# Altium schematic symbol library TLV320AIC3204.SchLib: 1 symbol
Pins are listed as number, name and electrical type; pins without a type are passive.

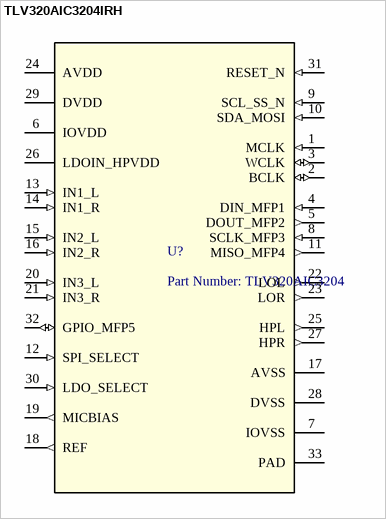
[diagram p0: symbol TLV320AIC3204IRH]

## TLV320AIC3204IRH
designator U?, comment Part Number: TLV320AIC3204
Very-Low-Power Stereo Audio CODEC With PowerTune™ Technology; PartNumber: TLV320AIC3204IRHBR; Manufacturer: Texas Instruments; RefDes: RefDes; TYPE: TYPE; Value: Value; ComponentLink1Description: Product Page; ComponentLink1URL: https://www.ti.com/product/TLV320AIC3204
footprint RHB32_3P45X3P45
pins: 1 MCLK (in), 2 BCLK (io), 3 WCLK (io), 4 DIN_MFP1 (in), 5 DOUT_MFP2 (out), 6 IOVDD (power), 7 IOVSS (power), 8 SCLK_MFP3 (in), 9 SCL_SS_N (in), 10 SDA_MOSI (in), 11 MISO_MFP4 (out), 12 SPI_SELECT (in), 13 IN1_L (in), 14 IN1_R (in), 15 IN2_L (in), 16 IN2_R (in), 17 AVSS (power), 18 REF (out), 19 MICBIAS (out), 20 IN3_L (in), 21 IN3_R (in), 22 LOL (out), 23 LOR (out), 24 AVDD (power), 25 HPL (out), 26 LDOIN_HPVDD (power), 27 HPR (out), 28 DVSS (power), 29 DVDD (power), 30 LDO_SELECT (in), 31 RESET_N (in), 32 GPIO_MFP5 (io), 33 PAD (power)